# EAGLE library part BC847BPN (library LARS_409_TRANSISTORS)
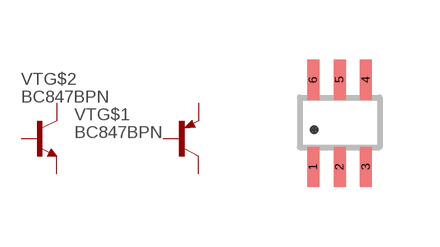
[diagram p1: symbol with the pads of SOT−363; footprint SOT−363]

Designator prefix VT; gates G$1=NPN G$2=PNP

## BC847BPN  [SOT−363]
1  G$1:E  pas
2  G$1:B  pas
3  G$2:C  pas
4  G$2:E  pas
5  G$2:B  pas
6  G$1:C  pas

## Footprint SOT−363 (pad centres in mm)
smd 0.3 x 1: 1 -0.66,-1.09; 2 0,-1.09; 3 0.66,-1.09; 4 0.66,1.09; 5 0,1.09; 6 -0.66,1.09